# EAGLE library part MC100EP58DG (library ON_Semiconductor_By_element14_Batch_1)
3.3V / 5V ECL 2:1 Multiplexer
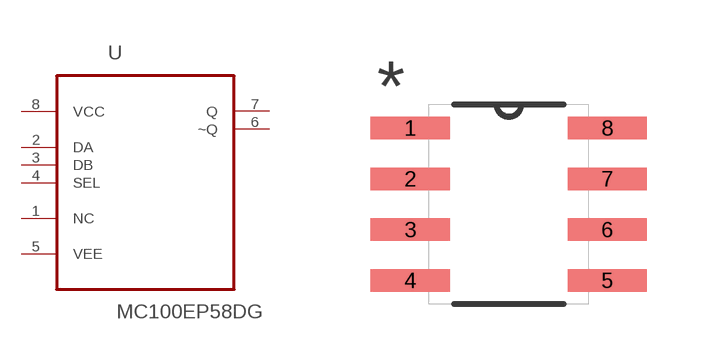
[diagram p127: symbol with the pads of SOIC127P600X175-8N; footprint SOIC127P600X175-8N]

Designator prefix U

## MC100EP58DG (MPN: MC100EP58DG; OC_FARNELL: 1150414; OC_NEWARK: 45J0947; PACKAGE: SOIC-8; SUPPLIER: ON SEMICONDUCTOR)  [SOIC127P600X175-8N]
1  NC  nc
2  DA  in
3  DB  in
4  SEL  in
5  VEE  pwr
6  ~Q  out
7  Q  out
8  VCC  pwr

## Footprint SOIC127P600X175-8N (pad centres in mm)
smd 1.981 x 0.559: 1 -2.464,1.905; 2 -2.464,0.635; 3 -2.464,-0.635; 4 -2.464,-1.905; 5 2.464,-1.905; 6 2.464,-0.635; 7 2.464,0.635; 8 2.464,1.905